# EAGLE library part TPS2114A (library HadleyResearch)
TPS2114A Autoswitching Power Mux More Information: Link <http://www.ti.com/lit/ds/symlink/tps2114a.pdf>
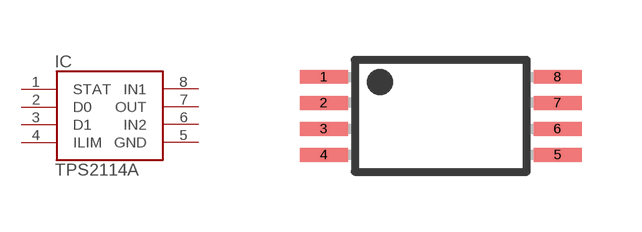
[diagram p2: symbol with the pads of TSSOP8; footprint TSSOP8]

Designator prefix IC

## TPS2114A  [TSSOP8]
1  STAT
2  D0
3  D1
4  ILIM
5  GND
6  IN2
7  OUT
8  IN1

## Footprint TSSOP8 (pad centres in mm)
TSSOP8 Thin Small Shrink Outline Package, 8 pin
smd 1.2 x 0.35: 1 -2.925,0.975; 2 -2.925,0.325; 3 -2.925,-0.325; 4 -2.925,-0.975; 5 2.925,-0.975; 6 2.925,-0.325; 7 2.925,0.325; 8 2.925,0.975